# Altium footprint library SunRef.PcbLib: 2 footprints
Each footprint in its own frame and in the unit in brackets; x right, y up, seen from the top. Pads: shape width x height; smd on the part's side, far side on the other; paste and mask are expansions set on the pad; w line width, h text height; cw(c..) or ccw(c..) is an arc to the next point about the centre after c.
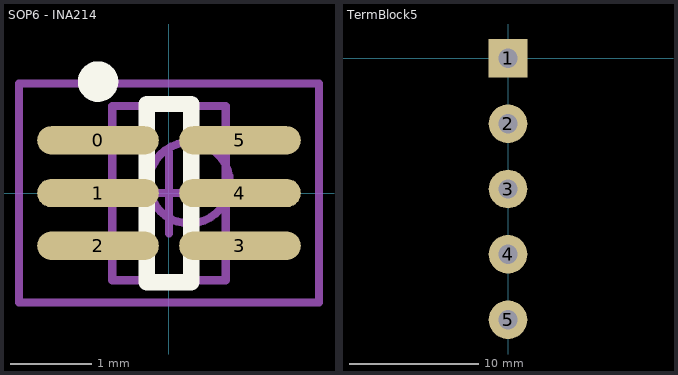
[diagram p0: the footprints below, top view; thin cyan lines are the x and y axes]

## SOP6 - INA214 [mm] "TSOP, 6-Leads, Body 2.2x1.4mm (max), Pitch 0.65mm, IPC Medium Density"
height 1.1
pads (6):
  oval 1.5x0.35 smd: 0(-0.875,0.65) 1(-0.875,0) 2(-0.875,-0.65) 3(0.875,-0.65) 4(0.875,0) 5(0.875,0.65)
Top Overlay:
  circle w0.25: c-0.875,1.375 r0.125
  lines w0.2: -0.275,-1.1 0.275,-1.1 0.275,1.1 -0.275,1.1 -0.275,-1.1
Mechanical 13:
  circle w0.1: c0.25,0.125 r0.5
  lines w0.1: -0.7,-1.075 0.7,-1.075 0.7,1.075 -0.7,1.075 -0.7,-1.075
Mechanical 15:
  lines w0.1: -0.5,0 0.5,0 ; 0,-0.5 0,0.5 ; -1.85,-1.35 1.85,-1.35 1.85,1.35 -1.85,1.35 -1.85,-1.35
3D body: height 1.1, standoff 0.1, extent -0.7,-1.075 0.7,1.075

## TermBlock5 [mm]
pads (5):
  rect 3x3 hole 1.5: 1(0,0)
  round 3 hole 1.5: 2(0,-5.08) 3(0,-10.16) 4(0,-15.24) 5(0,-20.32)